# Altium footprint library Indicator.PcbLib: 51 footprints (part 3 of 4)
Each footprint in its own frame and in the unit in brackets; x right, y up, seen from the top. Pads: shape width x height; smd on the part's side, far side on the other; paste and mask are expansions set on the pad; w line width, h text height; cw(c..) or ccw(c..) is an arc to the next point about the centre after c.
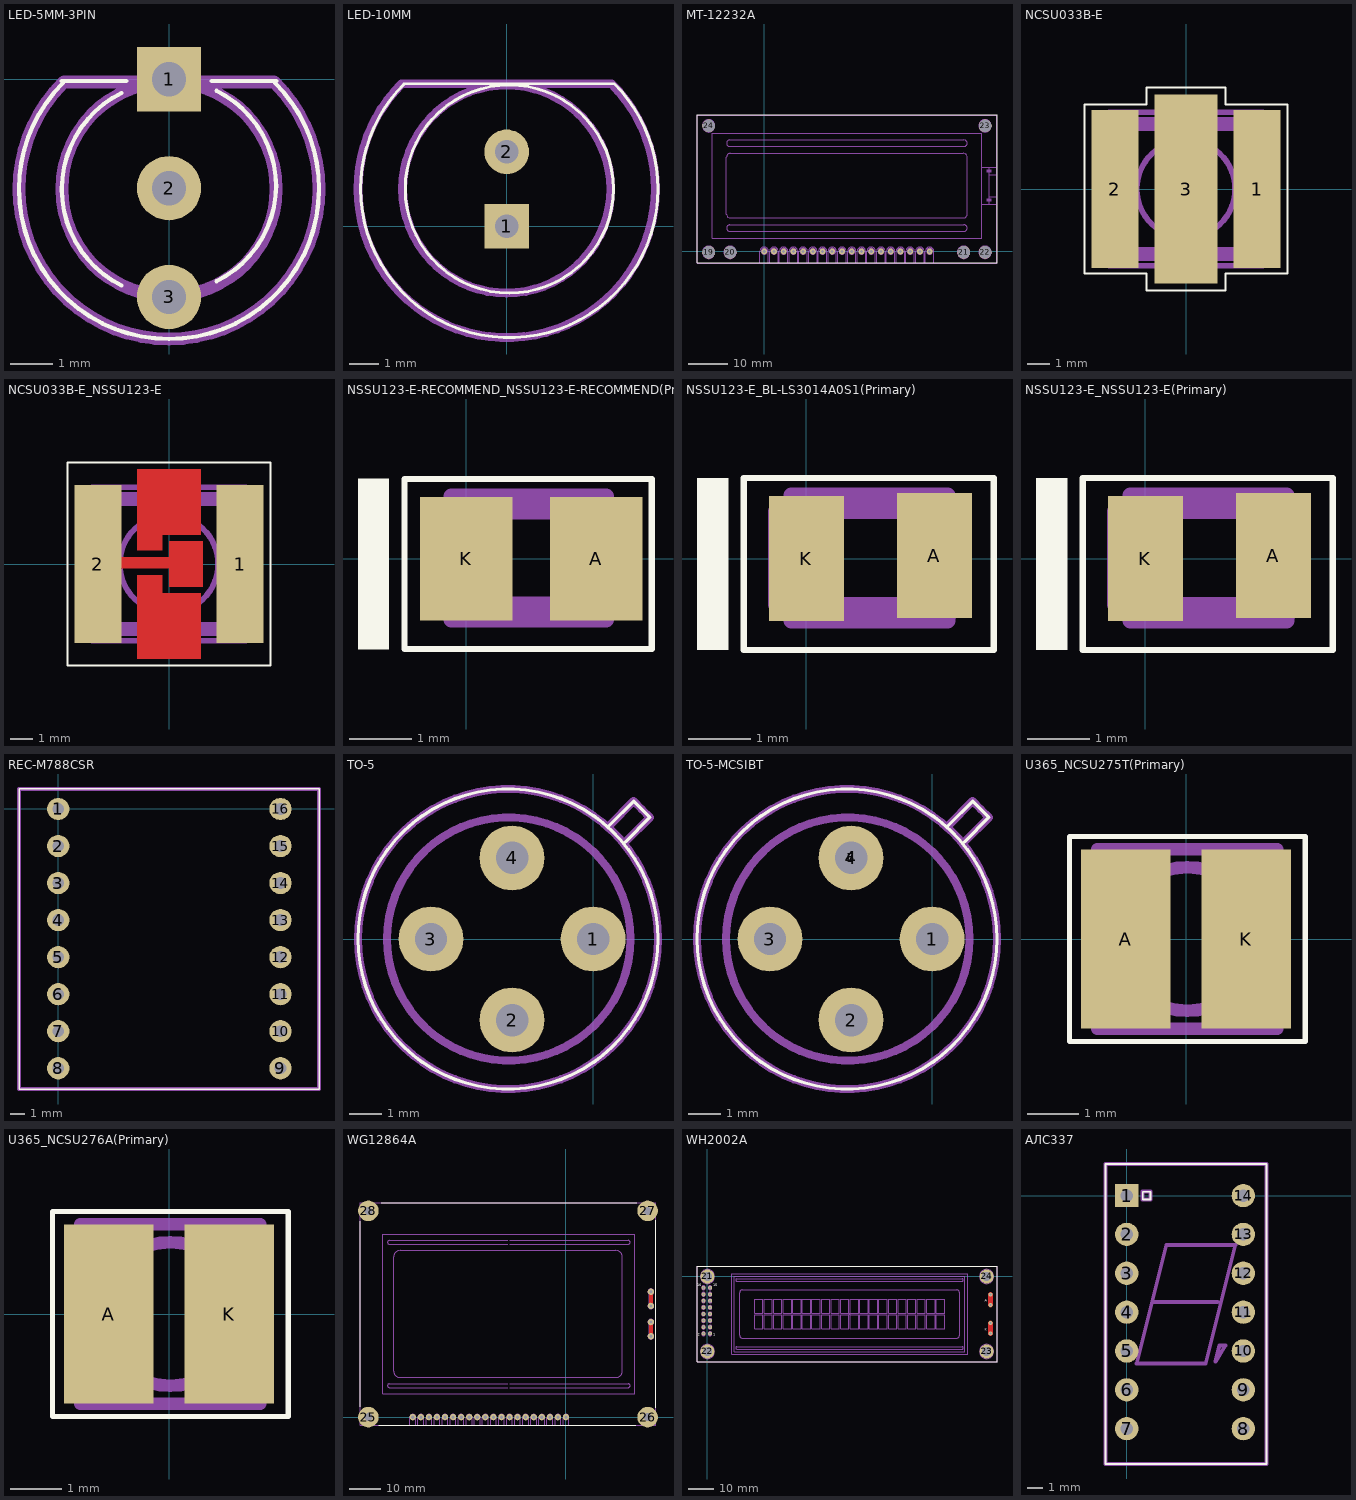
[diagram p2: the footprints below, top view; thin cyan lines are the x and y axes]

## LED-5MM-3PIN [mm]
pads (3):
  rect 1.5x1.5 hole 0.8: 1(0,0)
  round 1.5 hole 0.8: 2(0,-2.54) 3(0,-5.08)
Top Overlay:
  lines w0.1: -2.5,-2.57 ccw(c0,-2.57) -1.108,-4.811 ; -2.5,-2.56 cw(c0,-2.56) -1.108,-0.319 ; -2.5,-0.04 -1,-0.04 ; -2.475,-0.085 ccw(c0,-2.56) -3.5,-2.56 ccw(c0,-2.56) 3.5,-2.56 ccw(c0,-2.56) 2.475,-0.085 ; 1,-0.04 2.5,-0.04 ; 1.108,-4.711 ccw(c0,-2.47) 2.5,-2.47 ; 1.108,-0.269 cw(c0,-2.51) 2.5,-2.51
Mechanical 1:
  lines w0.3: -2.475,-0.085 ccw(c0,-2.56) -3.5,-2.56 ccw(c0,-2.56) 3.5,-2.56 ccw(c0,-2.56) 2.475,-0.085 ; -2.45,-0.06 2.45,-0.06 ; -2.5,-2.56 cw(c0,-2.56) 2.5,-2.56 cw(c0,-2.56) -2.5,-2.56
  text "1" at -2.54,0 h0.63

## LED-10MM [mm]
pads (2):
  rect 1.5x1.5 hole 0.8: 1(0,0)
  round 1.5 hole 0.8: 2(0,2.5)
Top Overlay:
  lines w0.1: -3.45,4.79 3.6,4.79 ; -3.446,4.786 ccw(c0.09,1.25) -4.91,1.25 ccw(c0.09,1.25) 5.09,1.25 ccw(c0.09,1.25) 3.626,4.786 ; -3.41,1.25 cw(c0.09,1.25) 3.59,1.25 cw(c0.09,1.25) -3.41,1.25
Mechanical 1:
  lines w0.3: -3.536,4.786 ccw(c0,1.25) -5,1.25 ccw(c0,1.25) 5,1.25 ccw(c0,1.25) 3.536,4.786 ; -3.5,4.79 3.5,4.79 ; -3.5,1.25 cw(c0,1.25) 3.5,1.25 cw(c0,1.25) -3.5,1.25
  text "A" at 1,-0.4 h0.63

## MT-12232A [mm]
pads (24):
  round 1.5 hole 0.8: 1(0,0) 2(2.5,0) 3(5,0) 4(7.5,0) 5(10,0) 6(12.5,0) 7(15,0) 8(17.45,0) 9(20,0) 10(22.5,0) 11(25,0) 12(27.5,0) 13(30,0) 14(32.5,0) 15(35,0) 16(37.5,0) 17(40,0) 18(42.5,0)
  round 3.2 hole 3.2 unplated: 19(-14.25,-0.25) 20(-8.75,-0.25) 21(51.25,-0.25) 22(56.75,-0.25) 23(56.75,32.25) 24(-14.25,32.25)
Top Overlay:
  lines w0.1: -17.2,-2.95 59.8,-2.95 59.8,35.05 -17.2,35.05 -17.2,-2.95
Mechanical 1:
  circle w0.25: c56.731,-0.226 r1.6
  circle w0.25: c51.231,-0.226 r1.6
  circle w0.25: c42.481,0.024 r0.75
  circle w0.25: c34.981,0.024 r0.75
  circle w0.25: c27.481,0.024 r0.75
  circle w0.25: c19.981,0.024 r0.75
  circle w0.25: c12.481,0.024 r0.75
  circle w0.25: c4.981,0.024 r0.75
  circle w0.25: c-8.769,-0.226 r1.6
  circle w0.25: c56.731,32.274 r1.6
  circle w0.25: c39.981,0.024 r0.75
  circle w0.25: c37.481,0.024 r0.75
  circle w0.25: c32.481,0.024 r0.75
  circle w0.25: c29.981,0.024 r0.75
  circle w0.25: c24.981,0.024 r0.75
  circle w0.25: c22.481,0.024 r0.75
  circle w0.25: c17.481,0.024 r0.75
  circle w0.25: c14.981,0.024 r0.75
  circle w0.25: c9.981,0.024 r0.75
  circle w0.25: c7.481,0.024 r0.75
  circle w0.25: c2.481,0.024 r0.75
  circle w0.25: c-0.019,0.024 r0.75
  circle w0.25: c-14.269,-0.226 r1.6
  circle w0.25: c-14.269,32.274 r1.6
  region: 57.112,20.918 58.262,20.918 58.262,20.278 57.112,20.278
  region: 57.112,12.865 58.262,12.865 58.262,13.505 57.112,13.505
  lines w0.25: -9.691,9.589 -9.691,16.892 -9.691,24.194 ; -9.691,9.591 ccw(c-8.691,9.589) -8.693,8.589 ; -9.691,24.196 cw(c-8.691,24.194) -8.691,25.194 21.231,25.194 51.154,25.194 ; -8.854,5.149 cw(c-8.853,5.988) -8.851,6.827 ; -8.853,5.149 51.315,5.149 ; -8.853,6.827 51.315,6.827 ; -8.691,8.589 21.231,8.589 51.154,8.589 ; -1.104,-2.976 -1.104,0.024 cw(c-0.019,0.024) 1.066,0.024 1.066,-2.976 ; 1.396,-2.976 1.396,0.024 cw(c2.481,0.024) 3.566,0.024 3.566,-2.976 ; 3.896,-2.976 3.896,0.024 cw(c4.981,0.024) 6.066,0.024 6.066,-2.976 ; 6.396,-2.976 6.396,0.024 cw(c7.481,0.024) 8.566,0.024 8.566,-2.976 ; 8.896,-2.976 8.896,0.024 cw(c9.981,0.024) 11.066,0.024 11.066,-2.976 ; 11.396,-2.976 11.396,0.024 cw(c12.481,0.024) 13.566,0.024 13.566,-2.976 ; 13.896,-2.976 13.896,0.024 cw(c14.981,0.024) 16.066,0.024 16.066,-2.976 ; 16.396,-2.976 16.396,0.024 cw(c17.481,0.024) 18.566,0.024 18.566,-2.976 ; 21.396,-2.976 21.396,0.024 cw(c22.481,0.024) 23.566,0.024 23.566,-2.976 ; 23.896,-2.976 23.896,0.024 cw(c24.981,0.024) 26.066,0.024 26.066,-2.976 ; 26.396,-2.976 26.396,0.024 cw(c27.481,0.024) 28.566,0.024 28.566,-2.976 ; 28.896,-2.976 28.896,0.024 cw(c29.981,0.024) 31.066,0.024 31.066,-2.976 ; 31.396,-2.976 31.396,0.024 cw(c32.481,0.024) 33.566,0.024 33.566,-2.976 ; 33.896,-2.976 33.896,0.024 cw(c34.981,0.024) 36.066,0.024 36.066,-2.976 ; 36.396,-2.976 36.396,0.024 cw(c37.481,0.024) 38.566,0.024 38.566,-2.976 ; 38.896,-2.976 38.896,0.024 cw(c39.981,0.024) 41.066,0.024 41.066,-2.976 ; 41.396,-2.976 41.396,0.024 cw(c42.481,0.024) 43.566,0.024 43.566,-2.976 ; 51.152,8.589 ccw(c51.154,9.589) 52.154,9.587 ; 51.156,25.194 cw(c51.154,24.194) 52.154,24.193 ; 51.314,5.149 ccw(c51.315,5.988) 51.317,6.827 ; 52.154,9.589 52.154,16.892 52.154,24.194 ; 57.781,12.865 57.781,12.161 55.831,12.161 59.731,12.161 ; 57.781,13.505 57.781,16.892 57.781,20.278 ; 57.781,14.106 59.731,14.106 ; 57.781,19.677 59.731,19.677 ; 57.781,20.918 57.781,21.623 55.831,21.623 59.731,21.623 ; -17.269,-2.976 59.731,-2.976 59.731,35.024 -17.269,35.024 -17.269,-2.976 ; -13.369,3.387 21.231,3.387 55.831,3.387 55.831,30.396 21.231,30.396 -13.369,30.396 -13.369,3.387 ; -8.853,26.957 cw(c-8.853,27.795) -8.853,28.634 51.315,28.634 cw(c51.315,27.795) 51.315,26.956 -8.853,26.956 ; 18.896,-2.976 21.066,-2.976 21.066,0.024 ccw(c19.981,0.024) 18.896,0.024 18.896,-2.976

## NCSU033B-E [mm]
pads (3):
  rect 2.1x7 smd: 1(3.15,0) 2(-3.15,0)
  rect 2.8x8.4 smd: 3(0,0)
Top Overlay:
  lines w0.1: -4.5,-3.75 -4.5,3.75 -1.75,3.75 -1.75,4.5 1.75,4.5 1.75,3.75 4.5,3.75 4.5,-3.75 1.75,-3.75 1.75,-4.5 -1.75,-4.5 -1.75,-3.75 -4.5,-3.75
Mechanical 1:
  circle w0.25: c-0.002,0.001 r2.175
  lines w0.25: -3.402,-3.399 3.398,-3.399 3.398,3.401 -3.402,3.401 -3.402,-3.399 ; -3.062,-2.659 ccw(c-2.662,-2.659) -2.662,-3.059 2.658,-3.059 ccw(c2.658,-2.659) 3.058,-2.659 3.058,2.661 ccw(c2.658,2.661) 2.658,3.061 -2.662,3.061 ccw(c-2.662,2.661) -3.062,2.661 -3.062,-2.659 ; -2.909,-2.506 ccw(c-2.509,-2.506) -2.509,-2.906 2.505,-2.906 ccw(c2.505,-2.506) 2.905,-2.506 2.905,2.508 ccw(c2.505,2.508) 2.505,2.908 -2.509,2.908 ccw(c-2.509,2.508) -2.909,2.508 -2.909,-2.506 ; -2.705,-2.303 ccw(c-2.305,-2.303) -2.305,-2.703 2.302,-2.703 ccw(c2.302,-2.303) 2.702,-2.303 2.702,2.304 ccw(c2.302,2.304) 2.302,2.704 -2.305,2.704 ccw(c-2.305,2.304) -2.705,2.304 -2.705,-2.303

## NCSU033B-E_NSSU123-E [mm]
pads (2):
  rect 2.1x7 smd: 1(3.15,0) 2(-3.15,0)
Top Layer:
  region: -1.4,0.6 -0.3,0.6 -0.3,1.3 1.4,1.3 1.4,4.2 -1.4,4.2
  region: -1.4,-4.2 1.4,-4.2 1.4,-1.3 -0.3,-1.3 -0.3,-0.5 -1.4,-0.5
  region: 0,-1 1.5,-1 1.5,1 0,1
  lines w0.5: -3.1,0.05 0.75,0.05
Top Overlay:
  lines w0.1: -4.5,-4.5 -4.5,-3.75 -4.5,3.75 -4.5,4.5 -1.75,4.5 1.75,4.5 4.5,4.5 4.5,3.75 4.5,-3.75 4.5,-4.5 1.75,-4.5 -1.75,-4.5 -4.5,-4.5
Top Solder:
  region: -1.5,-4.3 1.5,-4.3 1.5,-1.1 1.6,-1.1 1.6,1.1 1.5,1.1 1.5,4.3 -1.5,4.3
Mechanical 1:
  circle w0.25: c-0.002,0.001 r2.175
  lines w0.25: -3.402,-3.399 3.398,-3.399 3.398,3.401 -3.402,3.401 -3.402,-3.399 ; -3.062,-2.659 ccw(c-2.662,-2.659) -2.662,-3.059 2.658,-3.059 ccw(c2.658,-2.659) 3.058,-2.659 3.058,2.661 ccw(c2.658,2.661) 2.658,3.061 -2.662,3.061 ccw(c-2.662,2.661) -3.062,2.661 -3.062,-2.659 ; -2.909,-2.506 ccw(c-2.509,-2.506) -2.509,-2.906 2.505,-2.906 ccw(c2.505,-2.506) 2.905,-2.506 2.905,2.508 ccw(c2.505,2.508) 2.505,2.908 -2.509,2.908 ccw(c-2.509,2.508) -2.909,2.508 -2.909,-2.506 ; -2.705,-2.303 ccw(c-2.305,-2.303) -2.305,-2.703 2.302,-2.703 ccw(c2.302,-2.303) 2.702,-2.303 2.702,2.304 ccw(c2.302,2.304) 2.302,2.704 -2.305,2.704 ccw(c-2.305,2.304) -2.705,2.304 -2.705,-2.303

## NSSU123-E-RECOMMEND_NSSU123-E-RECOMMEND(Primary) [mm]
pads (2):
  rect 1.5x2 smd: A(2.1,0) K(0,0)
Top Overlay:
  region: -1.75,-1.46 -1.25,-1.46 -1.25,1.29 -1.75,1.29
  lines w0.1: -1,-1.46 3,-1.46 3,1.29 -1,1.29 -1,-1.46
Mechanical 1:
  lines w0.25: 1.559,-0.739 ccw(c1.56,0.011) 2.31,0.01 ccw(c1.56,0.011) 1.561,0.761 ; 1.56,-0.739 1.01,-0.739 0.46,-0.739 cw(c0.46,0.011) -0.29,0.011 cw(c0.46,0.011) 0.46,0.761 1.01,0.761 1.56,0.761 ; -0.49,-0.739 cw(c-0.49,-0.989) -0.24,-0.989 2.26,-0.989 cw(c2.51,-0.989) 2.51,-0.739 2.51,0.761 cw(c2.51,1.011) 2.26,1.011 -0.24,1.011 cw(c-0.49,1.011) -0.49,0.761 -0.49,-0.739 ; -0.358,-0.672 -0.349,-0.622 -0.33,-0.6 -0.091,-0.886 -0.117,-0.9 -0.168,-0.9 -0.358,-0.672 ; -0.358,0.694 -0.349,0.644 -0.33,0.622 -0.091,0.908 -0.117,0.922 -0.168,0.922 -0.358,0.694

## NSSU123-E_BL-LS3014A0S1(Primary) [mm]
pads (2):
  rect 1.2x2 smd: A(2.05,0.05) K(0,0)
Top Overlay:
  region: -1.75,-1.46 -1.25,-1.46 -1.25,1.29 -1.75,1.29
  lines w0.1: -1,-1.46 3,-1.46 3,1.29 -1,1.29 -1,-1.46
Mechanical 1:
  lines w0.25: 1.559,-0.739 ccw(c1.56,0.011) 2.31,0.01 ccw(c1.56,0.011) 1.561,0.761 ; 1.56,-0.739 1.01,-0.739 0.46,-0.739 cw(c0.46,0.011) -0.29,0.011 cw(c0.46,0.011) 0.46,0.761 1.01,0.761 1.56,0.761 ; -0.49,-0.739 cw(c-0.49,-0.989) -0.24,-0.989 2.26,-0.989 cw(c2.51,-0.989) 2.51,-0.739 2.51,0.761 cw(c2.51,1.011) 2.26,1.011 -0.24,1.011 cw(c-0.49,1.011) -0.49,0.761 -0.49,-0.739 ; -0.358,-0.672 -0.349,-0.622 -0.33,-0.6 -0.091,-0.886 -0.117,-0.9 -0.168,-0.9 -0.358,-0.672 ; -0.358,0.694 -0.349,0.644 -0.33,0.622 -0.091,0.908 -0.117,0.922 -0.168,0.922 -0.358,0.694

## NSSU123-E_NSSU123-E(Primary) [mm]
pads (2):
  rect 1.2x2 smd: A(2.05,0.05) K(0,0)
Top Overlay:
  region: -1.75,-1.46 -1.25,-1.46 -1.25,1.29 -1.75,1.29
  lines w0.1: -1,-1.46 3,-1.46 3,1.29 -1,1.29 -1,-1.46
Mechanical 1:
  lines w0.25: 1.559,-0.739 ccw(c1.56,0.011) 2.31,0.01 ccw(c1.56,0.011) 1.561,0.761 ; 1.56,-0.739 1.01,-0.739 0.46,-0.739 cw(c0.46,0.011) -0.29,0.011 cw(c0.46,0.011) 0.46,0.761 1.01,0.761 1.56,0.761 ; -0.49,-0.739 cw(c-0.49,-0.989) -0.24,-0.989 2.26,-0.989 cw(c2.51,-0.989) 2.51,-0.739 2.51,0.761 cw(c2.51,1.011) 2.26,1.011 -0.24,1.011 cw(c-0.49,1.011) -0.49,0.761 -0.49,-0.739 ; -0.358,-0.672 -0.349,-0.622 -0.33,-0.6 -0.091,-0.886 -0.117,-0.9 -0.168,-0.9 -0.358,-0.672 ; -0.358,0.694 -0.349,0.644 -0.33,0.622 -0.091,0.908 -0.117,0.922 -0.168,0.922 -0.358,0.694

## REC-M788CSR [mm]
pads (16):
  round 1.5 hole 0.8: 1(0,0) 2(0,-2.5) 3(0,-5) 4(0,-7.5) 5(0,-10) 6(0,-12.5) 7(0,-15) 8(0,-17.5) 9(15,-17.5) 10(15,-15) 11(15,-12.5) 12(15,-10) 13(15,-7.5) 14(15,-5) 15(15,-2.5) 16(15,0)
Top Overlay:
  lines w0.1: -2.65,-18.9 17.6,-18.9 17.6,1.35 -2.65,1.35 -2.65,-18.9
Mechanical 1:
  lines w0.25: -2.65,-18.9 17.6,-18.9 17.6,1.35 -2.65,1.35 -2.65,-18.9

## TO-5 [mm]
pads (4):
  round 2 hole 1: 1(0,0) 2(-2.5,-2.5) 3(-5,0) 4(-2.5,2.5)
Top Overlay:
  lines w0.1: 0.5,3.5 1.25,4.25 1.5,4 1.75,3.75 1,3 ; -7.25,0 cw(c-2.625,0) 2,0 cw(c-2.625,0) -7.25,0
Mechanical 1:
  lines w0.25: 0.5,3.5 1.25,4.25 1.5,4 1.75,3.75 1,3 ; -7.25,0 cw(c-2.625,0) 2,0 cw(c-2.625,0) -7.25,0 ; -6.35,0 cw(c-2.6,0) 1.15,0 cw(c-2.6,0) -6.35,0

## TO-5-MCSIBT [mm]
pads (7):
  round 2 hole 1: 1(0,0) 2(-2.5,-2.5) 3(-5,0) 4(-2.5,2.5)
  round 0.5 smd: 5(-2.5,2.5) 6(-2.5,2.5) 7(-2.5,2.5)
Top Overlay:
  lines w0.1: 0.5,3.5 1.25,4.25 1.5,4 1.75,3.75 1,3 ; -7.25,0 cw(c-2.625,0) 2,0 cw(c-2.625,0) -7.25,0
Mechanical 1:
  lines w0.25: 0.5,3.5 1.25,4.25 1.5,4 1.75,3.75 1,3 ; -7.25,0 cw(c-2.625,0) 2,0 cw(c-2.625,0) -7.25,0 ; -6.35,0 cw(c-2.6,0) 1.15,0 cw(c-2.6,0) -6.35,0
  text "B" at -3.04,-6.75 h0.94
  text "R" at 2.46,-1 h0.94
  text "G" at -8.79,-0.75 h0.94

## U365_NCSU275T(Primary) [mm]
pads (2):
  rect 1.75x3.5 smd: A(-1.175,0) K(1.175,0)
Top Overlay:
  lines w0.1: -2.275,-2 2.325,-2 2.325,2 -2.275,2 -2.275,-2
Mechanical 1:
  region: 0.975,1.45 1.475,0.95 1.475,1.45
  region: 1.475,-0.95 0.975,-1.45 1.475,-1.45
  lines w0.25: -1.725,-1.75 1.775,-1.75 1.775,1.75 -1.725,1.75 -1.725,-1.75 ; 0.025,-1.4 cw(c0.025,0) 0.025,1.4 cw(c0.025,0) 0.025,-1.4

## U365_NCSU276A(Primary) [mm]
pads (2):
  rect 1.75x3.5 smd: A(-1.175,0) K(1.175,0)
Top Overlay:
  lines w0.1: -2.275,-2 2.325,-2 2.325,2 -2.275,2 -2.275,-2
Mechanical 1:
  region: 0.975,1.45 1.475,0.95 1.475,1.45
  region: 1.475,-0.95 0.975,-1.45 1.475,-1.45
  lines w0.25: -1.725,-1.75 1.775,-1.75 1.775,1.75 -1.725,1.75 -1.725,-1.75 ; 0.025,-1.4 cw(c0.025,0) 0.025,1.4 cw(c0.025,0) 0.025,-1.4

## WG12864A [mm]
pads (28):
  round 2 hole 1: 1(0,0) 2(-2.55,0) 3(-5.05,0) 4(-7.6,0) 5(-10.15,0) 6(-12.7,0) 7(-15.25,0) 8(-17.75,0) 9(-20.3,0) 10(-22.85,0) 11(-25.4,0) 12(-27.95,0) 13(-30.45,0) 14(-33,0) 15(-35.55,0) 16(-38.1,0) 17(-40.65,0) 18(-43.15,0) 19(-45.7,0) 20(-48.25,0) 21(26.75,39.5) 22(26.75,35.05) 23(26.75,29.95) 24(26.75,25.5)
  round 6.5 hole 2.5: 25(-62.25,0) 26(25.75,0) 27(25.75,65) 28(-62.25,65)
Top Layer:
  lines w1.25: 26.75,25.5 26.75,30 ; 26.75,35.05 26.75,39.5
Top Overlay:
  lines w0.1: -64.75,3.25 -64.75,61.75 ; -59,-2.5 22,-2.5 ; -58.25,67.5 22.25,67.5 ; 28.25,3 28.25,62
Mechanical 1:
  circle w0.25: c25.749,65.003 r2.5
  circle w0.25: c-62.251,65.003 r2.5
  circle w0.25: c25.749,0.003 r2.5
  circle w0.25: c-62.251,0.003 r2.5
  circle w0.25: c-2.531,0.003 r0.5
  circle w0.25: c-10.151,0.003 r0.5
  circle w0.25: c-17.771,0.003 r0.5
  circle w0.25: c-25.391,0.003 r0.5
  circle w0.25: c-33.011,0.003 r0.5
  circle w0.25: c-40.631,0.003 r0.5
  circle w0.25: c-48.251,0.003 r0.5
  circle w0.25: c26.749,25.503 r0.5
  circle w0.25: c26.749,39.503 r0.5
  circle w0.25: c26.749,35.043 r0.5
  circle w0.25: c26.749,29.963 r0.5
  circle w0.25: c0.009,0.003 r0.5
  circle w0.25: c-5.071,0.003 r0.5
  circle w0.25: c-7.611,0.003 r0.5
  circle w0.25: c-12.691,0.003 r0.5
  circle w0.25: c-15.231,0.003 r0.5
  circle w0.25: c-20.311,0.003 r0.5
  circle w0.25: c-22.851,0.003 r0.5
  circle w0.25: c-27.931,0.003 r0.5
  circle w0.25: c-30.471,0.003 r0.5
  circle w0.25: c-35.551,0.003 r0.5
  circle w0.25: c-38.091,0.003 r0.5
  circle w0.25: c-43.171,0.003 r0.5
  circle w0.25: c-45.711,0.003 r0.5
  lines w0.25: -49.151,-2.497 -49.151,0.003 cw(c-48.251,0.003) -47.351,0.003 -47.351,-2.497 ; -46.611,-2.497 -46.611,0.003 cw(c-45.711,0.003) -44.811,0.003 -44.811,-2.497 ; -44.071,-2.497 -44.071,0.003 cw(c-43.171,0.003) -42.271,0.003 -42.271,-2.497 ; -41.531,-2.497 -41.531,0.003 cw(c-40.631,0.003) -39.731,0.003 -39.731,-2.497 ; -38.991,-2.497 -38.991,0.003 cw(c-38.091,0.003) -37.191,0.003 -37.191,-2.497 ; -36.451,-2.497 -36.451,0.003 cw(c-35.551,0.003) -34.651,0.003 -34.651,-2.497 ; -33.911,-2.497 -33.911,0.003 cw(c-33.011,0.003) -32.111,0.003 -32.111,-2.497 ; -31.371,-2.497 -31.371,0.003 cw(c-30.471,0.003) -29.571,0.003 -29.571,-2.497 ; -28.831,-2.497 -28.831,0.003 cw(c-27.931,0.003) -27.031,0.003 -27.031,-2.497 ; -26.291,-2.497 -26.291,0.003 cw(c-25.391,0.003) -24.491,0.003 -24.491,-2.497 ; -23.751,-2.497 -23.751,0.003 cw(c-22.851,0.003) -21.951,0.003 -21.951,-2.497 ; -21.211,-2.497 -21.211,0.003 cw(c-20.311,0.003) -19.411,0.003 -19.411,-2.497 ; -18.671,-2.497 -18.671,0.003 cw(c-17.771,0.003) -16.871,0.003 -16.871,-2.497 ; -18.251,9.325 -55.628,9.325 cw(c-55.628,9.918) -55.628,10.511 -18.251,10.511 ; -18.251,54.495 -55.628,54.495 cw(c-55.628,55.088) -55.628,55.68 -18.251,55.68 ; -17.751,9.325 19.626,9.325 ccw(c19.626,9.918) 19.626,10.511 -17.751,10.511 ; -17.751,54.495 19.626,54.495 ccw(c19.626,55.088) 19.626,55.68 -17.751,55.68 ; -16.131,-2.497 -16.131,0.003 cw(c-15.231,0.003) -14.331,0.003 -14.331,-2.497 ; -13.591,-2.497 -13.591,0.003 cw(c-12.691,0.003) -11.791,0.003 -11.791,-2.497 ; -11.051,-2.497 -11.051,0.003 cw(c-10.151,0.003) -9.251,0.003 -9.251,-2.497 ; -8.511,-2.497 -8.511,0.003 cw(c-7.611,0.003) -6.711,0.003 -6.711,-2.497 ; -5.971,-2.497 -5.971,0.003 cw(c-5.071,0.003) -4.171,0.003 -4.171,-2.497 ; -3.431,-2.497 -3.431,0.003 cw(c-2.531,0.003) -1.631,0.003 -1.631,-2.497 ; -0.891,-2.497 -0.891,0.003 cw(c0.009,0.003) 0.909,0.003 0.909,-2.497 ; 26.233,29.203 cw(c26.749,29.963) 27.264,29.202 27.264,26.263 ; 26.233,38.743 cw(c26.749,39.503) 27.264,38.742 27.264,35.803 ; 26.234,29.202 26.234,26.263 ccw(c26.749,25.503) 27.265,26.262 ; 26.234,38.742 26.234,35.803 ccw(c26.749,35.043) 27.265,35.802 ; -64.751,-2.497 28.249,-2.497 28.249,67.503 -64.751,67.503 -64.751,-2.497 ; -57.751,7.403 21.749,7.403 21.749,32.503 21.749,57.603 -57.751,57.603 -57.751,32.503 -57.751,7.403 ; -54.251,14.503 ccw(c-52.251,14.503) -52.251,12.503 -18.251,12.503 15.749,12.503 ccw(c15.749,14.503) 17.749,14.503 17.749,32.503 17.749,50.503 ccw(c15.749,50.503) 15.749,52.503 -18.251,52.503 -52.251,52.503 ccw(c-52.251,50.503) -54.251,50.503 -54.251,32.503 -54.251,14.503

## WH2002A [mm]
pads (24):
  round 1.5 hole 0.8: 1(1.05,-22.1) 2(-1.5,-22.1) 3(1.05,-19.6) 4(-1.5,-19.6) 5(1.05,-17.05) 6(-1.5,-17.05) 7(1.05,-14.5) 8(-1.5,-14.5) 9(1.05,-11.95) 10(-1.5,-11.95) 11(1.05,-9.4) 12(-1.5,-9.4) 13(1.05,-6.9) 14(-1.5,-6.9) 15(1.05,-4.35) 16(-1.5,-4.35) 17(109.5,-7) 18(109.5,-11) 19(109.5,-18) 20(109.5,-22)
  round 5.5 hole 3.5: 21(0,0) 22(0,-29) 23(108,-29) 24(108,0)
Top Layer:
  lines w2: 109.5,-22 109.5,-18 ; 109.5,-11 109.5,-7
Top Overlay:
  lines w0.1: -4,-33.001 112,-33.001 112,3.999 -4,3.999 -4,-33.001
  text "K" at 107.25,-21 h0.94
  text "A" at 107.25,-9.75 h0.94
  text "15" at 2.25,-3.75 h0.94
  text "1" at 2.25,-23 h0.94
  text "16" at -4,-3.75 h0.94
  text "2" at -3.75,-23 h0.94
Mechanical 1:
  drawing of 240 lines, arcs and shapes, not listed

## АЛС337 [mm]
pads (14):
  rect 1.5x1.5 hole 0.8: 1(0,0)
  round 1.5 hole 0.8: 2(0,-2.5) 3(0,-5) 4(0,-7.5) 5(0,-10) 6(0,-12.5) 7(0,-15) 8(7.5,-15) 9(7.5,-12.5) 10(7.5,-10) 11(7.5,-7.5) 12(7.5,-5) 13(7.5,-2.5) 14(7.5,0)
Top Overlay:
  lines w0.1: -1.372,-17.272 8.992,-17.272 8.992,2.032 -1.372,2.032 -1.372,-17.272 ; 1.016,-0.254 1.524,-0.254 1.524,0.254 1.016,0.254 1.016,-0.254
Mechanical 1:
  lines w0.25: 1.778,-6.858 5.842,-6.858 ; -1.372,-17.272 8.992,-17.272 8.992,2.032 -1.372,2.032 -1.372,-17.272 ; 0.635,-10.795 2.54,-3.175 6.985,-3.175 5.08,-10.795 0.635,-10.795 ; 1.016,-0.254 1.524,-0.254 1.524,0.254 1.016,0.254 1.016,-0.254 ; 5.715,-10.668 6.35,-9.652 5.969,-9.652 5.715,-10.668